# Altium schematic symbol library CONTROL_BOARD.SchLib: 7 symbols
Pins are listed as number, name and electrical type; pins without a type are passive.

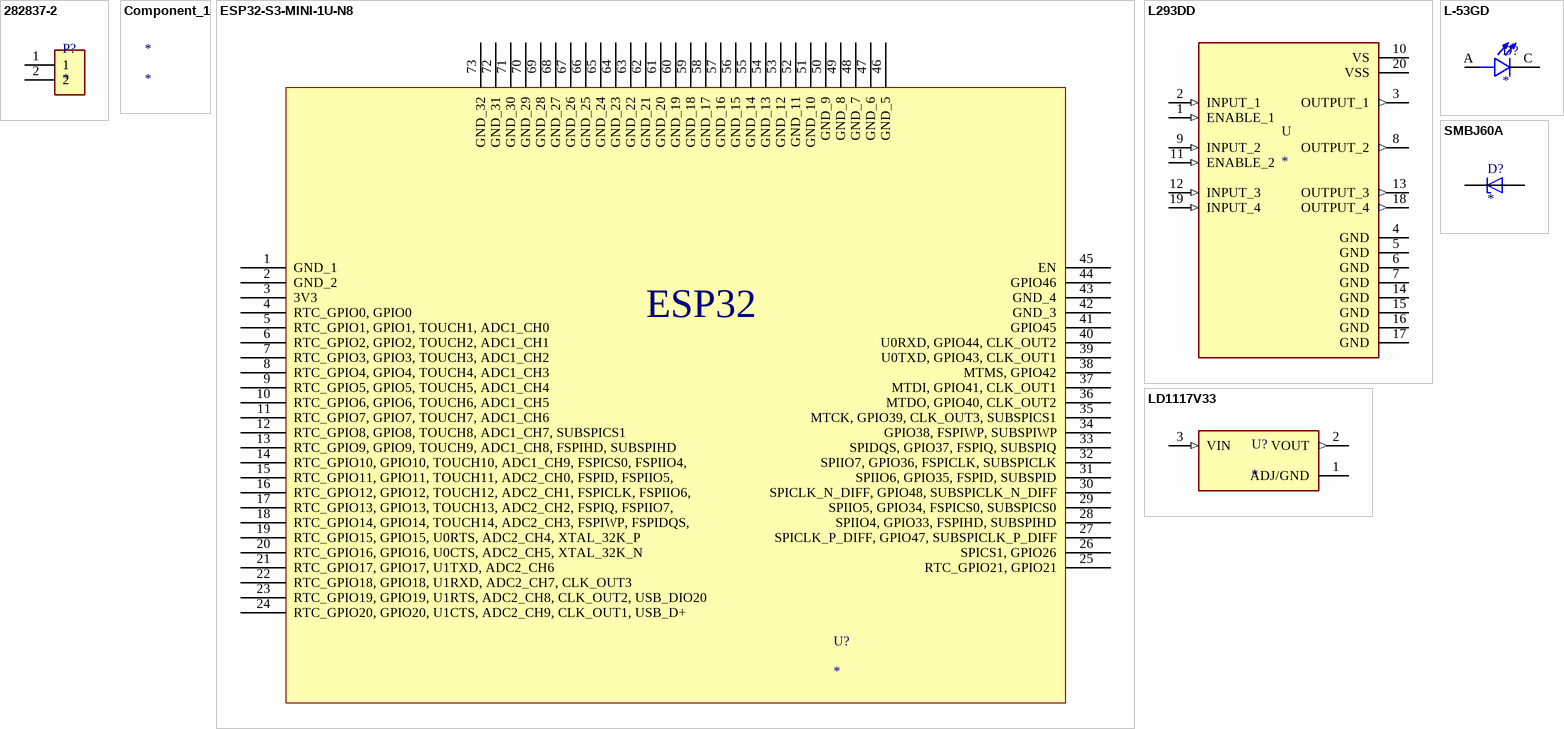
[diagram p0: symbols 282837-2 to SMBJ60A]

## 282837-2
designator P?
Ð Ð°Ð·ÑŠÐµÐ¼Ð½Ñ‹Ðµ ÐºÐ»ÐµÐ¼Ð¼Ð½Ñ‹Ðµ ÐºÐ¾Ð»Ð¾Ð´ÐºÐ¸ Ð Ð¾Ð·ÐµÑ‚ÐºÐ° 2 Ð¿Ð¾Ð»Ð¾Ð¶ÐµÐ½Ð¸Ñ 5,08 Ð¼Ð¼ ÐŸÑ€Ð¸Ð¿Ð¾Ð¹ Ð¿Ñ€ÑÐ¼Ð¾Ð¹ Ñ‡ÐµÑ€ÐµÐ· Ð¾Ñ‚Ð²ÐµÑ€ÑÑ‚Ð¸Ðµ 13,5 Ð / ÐºÐ¾Ð½Ñ‚Ð°ÐºÑ‚; MF: TE Connectivity; MP: 282837-2; SnapEDA_Link: https://www.snapeda.com/parts/282837-2/TE+Connectivity+AMP+Connectors/view-part/?ref=snap; Price: None; Check_prices: https://www.snapeda.com/parts/282837-2/TE+Connectivity+AMP+Connectors/view-part/?ref=eda; Purchase-URL: https://pricing.snapeda.com/search/part/282837-2/?ref=eda; Value: *; Availability: In Stock; Package: None
footprint TE_282837-2
pins: 1, 2

## Component_1
designator *

## ESP32-S3-MINI-1U-N8
designator U?
Manufacturer: Espressif Systems; Manufacturer Part Number: ESP32-S3-MINI-1U-N8; Supplier: Digikey; Supplier Part Number: 1965-ESP32-S3-MINI-1U-N8CT-ND; RoHS: No; Category: LDO; Stock: 2332; Pricing: 1=3.1 (USD)
footprint XCVR_ESP32-S3-MINI-1-N8
pins: 1 GND_1, 2 GND_2, 3 3V3, 4 RTC_GPIO0, GPIO0, 5 RTC_GPIO1, GPIO1, TOUCH1, ADC1_CH0, 6 RTC_GPIO2, GPIO2, TOUCH2, ADC1_CH1, 7 RTC_GPIO3, GPIO3, TOUCH3, ADC1_CH2, 8 RTC_GPIO4, GPIO4, TOUCH4, ADC1_CH3, 9 RTC_GPIO5, GPIO5, TOUCH5, ADC1_CH4, 10 RTC_GPIO6, GPIO6, TOUCH6, ADC1_CH5, 11 RTC_GPIO7, GPIO7, TOUCH7, ADC1_CH6, 12 RTC_GPIO8, GPIO8, TOUCH8, ADC1_CH7, SUBSPICS1, 13 RTC_GPIO9, GPIO9, TOUCH9, ADC1_CH8, FSPIHD, SUBSPIHD, 14 RTC_GPIO10, GPIO10, TOUCH10, ADC1_CH9, FSPICS0, FSPIIO4,, 15 RTC_GPIO11, GPIO11, TOUCH11, ADC2_CH0, FSPID, FSPIIO5,, 16 RTC_GPIO12, GPIO12, TOUCH12, ADC2_CH1, FSPICLK, FSPIIO6,, 17 RTC_GPIO13, GPIO13, TOUCH13, ADC2_CH2, FSPIQ, FSPIIO7,, 18 RTC_GPIO14, GPIO14, TOUCH14, ADC2_CH3, FSPIWP, FSPIDQS,, 19 RTC_GPIO15, GPIO15, U0RTS, ADC2_CH4, XTAL_32K_P, 20 RTC_GPIO16, GPIO16, U0CTS, ADC2_CH5, XTAL_32K_N, 21 RTC_GPIO17, GPIO17, U1TXD, ADC2_CH6, 22 RTC_GPIO18, GPIO18, U1RXD, ADC2_CH7, CLK_OUT3, 23 RTC_GPIO19, GPIO19, U1RTS, ADC2_CH8, CLK_OUT2, USB_DIO20, 24 RTC_GPIO20, GPIO20, U1CTS, ADC2_CH9, CLK_OUT1, USB_D+, 25 RTC_GPIO21, GPIO21, 26 SPICS1, GPIO26, 27 SPICLK_P_DIFF, GPIO47, SUBSPICLK_P_DIFF, 28 SPIIO4, GPIO33, FSPIHD, SUBSPIHD, 29 SPIIO5, GPIO34, FSPICS0, SUBSPICS0, 30 SPICLK_N_DIFF, GPIO48, SUBSPICLK_N_DIFF, 31 SPIIO6, GPIO35, FSPID, SUBSPID, 32 SPIIO7, GPIO36, FSPICLK, SUBSPICLK, 33 SPIDQS, GPIO37, FSPIQ, SUBSPIQ, 34 GPIO38, FSPIWP, SUBSPIWP, 35 MTCK, GPIO39, CLK_OUT3, SUBSPICS1, 36 MTDO, GPIO40, CLK_OUT2, 37 MTDI, GPIO41, CLK_OUT1, 38 MTMS, GPIO42, 39 U0TXD, GPIO43, CLK_OUT1, 40 U0RXD, GPIO44, CLK_OUT2, 41 GPIO45, 42 GND_3, 43 GND_4, 44 GPIO46, 45 EN, 46 GND_5, 47 GND_6, 48 GND_7, 49 GND_8, 50 GND_9, 51 GND_10, 52 GND_11, 53 GND_12, 54 GND_13, 55 GND_14, 56 GND_15, 57 GND_16, 58 GND_17, 59 GND_18, 60 GND_19, 61 GND_20, 62 GND_21, 63 GND_22, 64 GND_23, 65 GND_24, 66 GND_25, 67 GND_26, 68 GND_27, 69 GND_28, 70 GND_29, 71 GND_30, 72 GND_31, 73 GND_32
text: ESP32

## L293DD
designator U
Bipolar Motor Driver Parallel 20-SOIC; MP: L293DD; MF: STMicroelectronics; Package: SOIC-20 STMicroelectronics; SnapEDA_Link: https://www.snapeda.com/parts/L293DD/STMicroelectronics/view-part/585585/?ref=snap; Value: *; Availability: Unavailable; Price: None
footprint SOIC127P1032X265-20N
pins: 1 ENABLE_1 (in), 2 INPUT_1 (in), 3 OUTPUT_1 (out), 4 GND (power), 5 GND (power), 6 GND (power), 7 GND (power), 8 OUTPUT_2 (out), 9 INPUT_2 (in), 10 VS (power), 11 ENABLE_2 (in), 12 INPUT_3 (in), 13 OUTPUT_3 (out), 14 GND (power), 15 GND (power), 16 GND (power), 17 GND (power), 18 OUTPUT_4 (out), 19 INPUT_4 (in), 20 VSS (power)

## L-53GD
designator D?
LED 5mm Green 568nm 20mcd/10mA 60Â°; MF: Kingbright; MP: L-53GD; Value: *; Package: CDIP-28; Check_prices: https://www.snapeda.com/parts/L-53GD/Kingbright/view-part/?ref=eda; Price: None; SnapEDA_Link: https://www.snapeda.com/parts/L-53GD/Kingbright/view-part/?ref=snap; Availability: Unavailable
footprint LEDRD254W50D500H1060
pins: A, C

## LD1117V33
designator U?
Linear Voltage Regulator IC Positive Fixed 1 Output 800mA TO-220AB; MP: LD1117V33; MF: STMicroelectronics; SnapEDA_Link: https://www.snapeda.com/parts/LD1117V33/STMicroelectronics/view-part/?ref=snap; Package: TO-220-3 ON Semiconductor; Check_prices: https://www.snapeda.com/parts/LD1117V33/STMicroelectronics/view-part/?ref=eda; Purchase-URL: https://pricing.snapeda.com/search/part/LD1117V33/?ref=eda; Price: None; Value: *; Availability: In Stock
footprint TO255P1020X450X1968-3
pins: 1 ADJ/GND, 2 VOUT (out), 3 VIN (in)

## SMBJ60A
designator D?
600W, 70.2V, 5%, Unidirectional, TVS; MP: SMBJ60A; MF: Taiwan Semiconductor; Availability: In Stock; Check_prices: https://www.snapeda.com/parts/SMBJ60A/Taiwan+Semiconductor/view-part/?ref=eda; SnapEDA_Link: https://www.snapeda.com/parts/SMBJ60A/Taiwan+Semiconductor/view-part/?ref=snap; Price: None; Value: *; Purchase-URL: https://pricing.snapeda.com/search/part/SMBJ60A/?ref=eda; Package: SMB Taiwan Semiconductor
footprint DIOM4336X265N (Footprint not found)
footprint TO255P1020X450X1968-3
pins: A, C